# Altium footprint library Resistor_DIP.PcbLib: 68 footprints (part 1 of 5)
Each footprint in its own frame and in the unit in brackets; x right, y up, seen from the top. Pads: shape width x height; smd on the part's side, far side on the other; paste and mask are expansions set on the pad; w line width, h text height; cw(c..) or ccw(c..) is an arc to the next point about the centre after c.
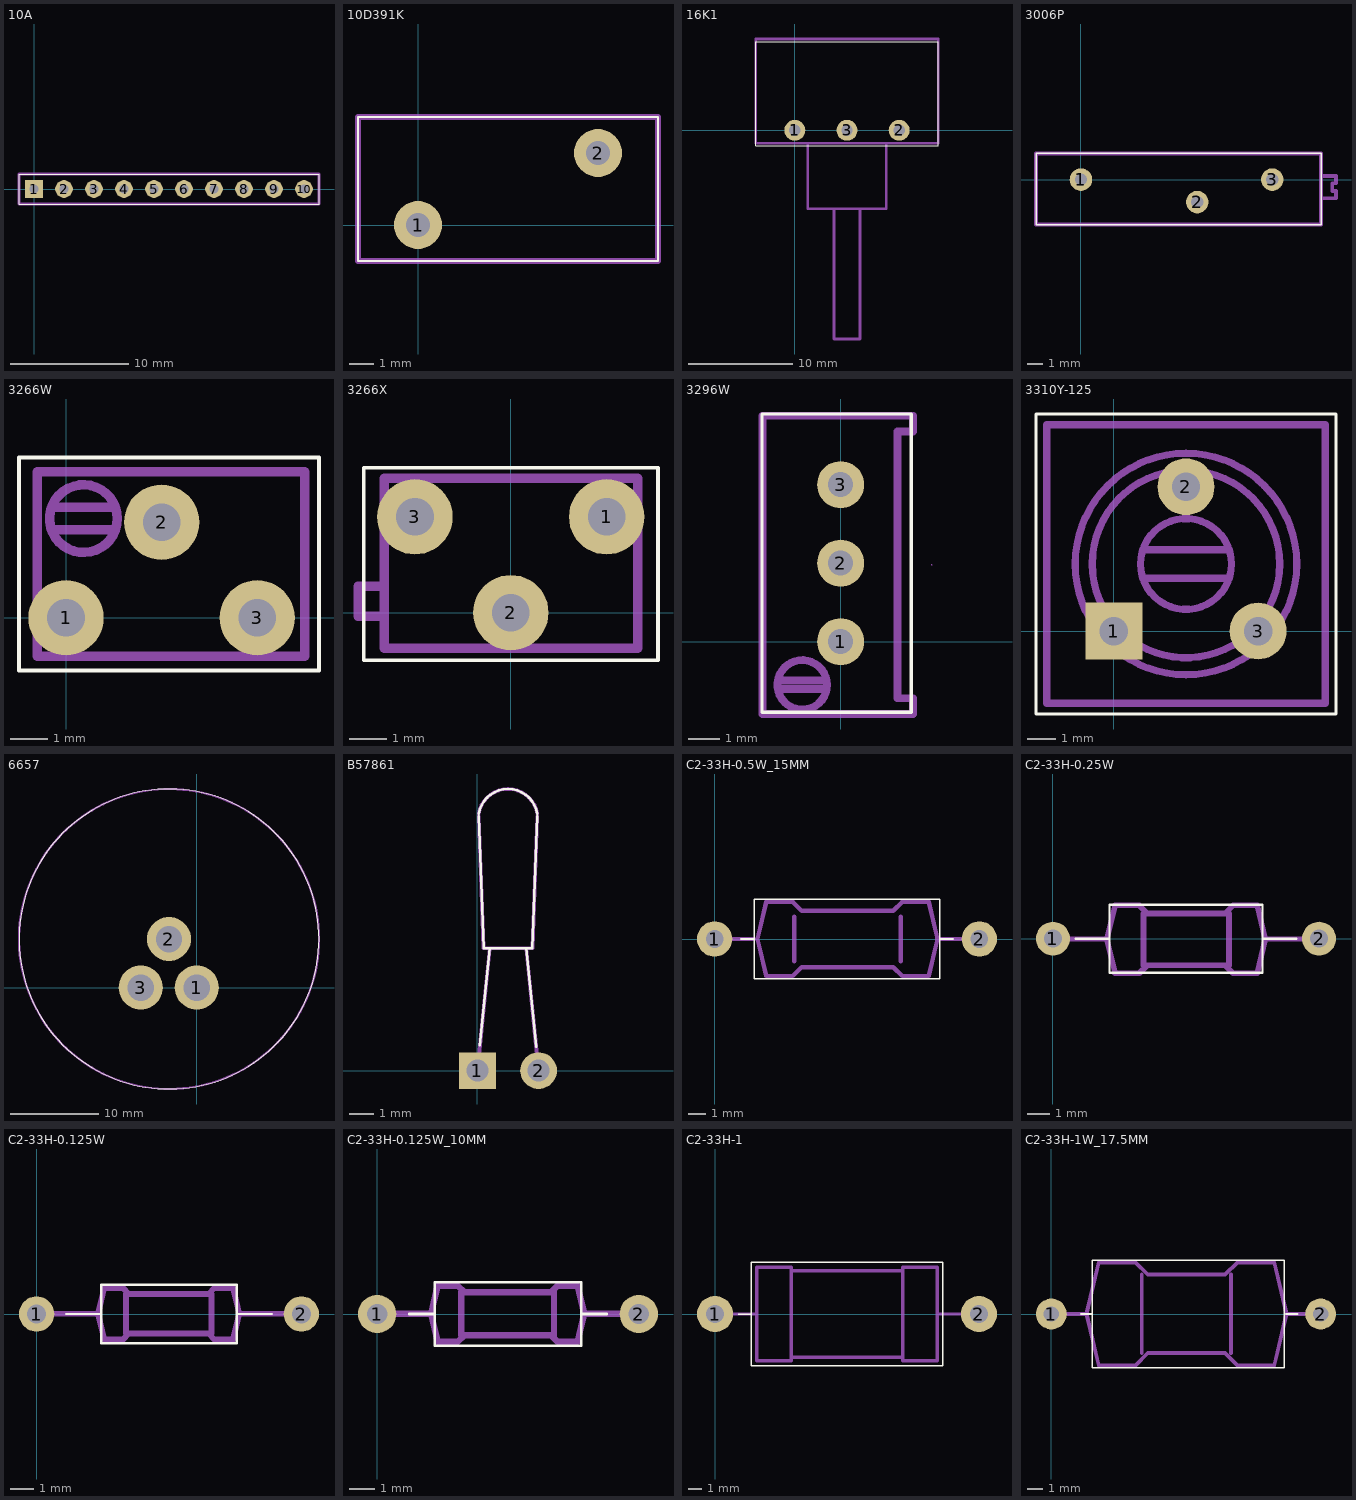
[diagram p0: the footprints below, top view; thin cyan lines are the x and y axes]

## 10A [mm]
pads (10):
  rect 1.5x1.5 hole 0.8: 1(0,0)
  round 1.5 hole 0.8: 2(2.54,0) 3(5.08,0) 4(7.62,0) 5(10.16,0) 6(12.7,0) 7(15.24,0) 8(17.78,0) 9(20.32,0) 10(22.86,0)
Top Overlay:
  lines w0.1: -1.27,-1.27 24.13,-1.27 24.13,1.27 -1.27,1.27 -1.27,-1.27
Mechanical 1:
  lines w0.25: -1.27,-1.27 24.13,-1.27 24.13,1.27 -1.27,1.27 -1.27,-1.27
  text "1" at -2.42,-0.72 h0.94

## 10D391K [mm]
pads (2):
  round 2 hole 1: 1(0,0) 2(7.5,3)
Top Overlay:
  lines w0.1: -2.5,-1.5 10,-1.5 10,4.5 -2.5,4.5 -2.5,-1.5
Mechanical 1:
  lines w0.25: -2.5,-1.5 10,-1.5 ; -2.5,-1.5 10,-1.5 ; -2.5,-1.5 -2.5,4.5 ; -2.5,-1.5 -2.5,4.5 ; -2.5,4.5 10,4.5 ; -2.5,4.5 10,4.5 ; 10,-1.5 10,4.5 ; 10,-1.5 10,4.5

## 16K1 [mm]
pads (3):
  round 2 hole 1.1: 1(0,0) 2(10,0) 3(5,0)
Top Overlay:
  lines w0.1: -3.75,-1.5 13.75,-1.5 13.75,8.5 -3.75,8.5 -3.75,-1.5
Mechanical 1:
  lines w0.25: 1.25,-1.25 1.25,-7.5 8.75,-7.5 8.75,-1.25 ; 3.75,-7.5 3.75,-20 6.25,-20 6.25,-7.5 ; -3.75,-1.25 13.75,-1.25 13.75,8.75 -3.75,8.75 -3.75,-1.25

## 3006P [mm]
pads (3):
  round 1.5 hole 0.8: 1(0,0) 2(7.75,-1.5) 3(12.75,0)
Top Overlay:
  lines w0.1: -3,-3 16,-3 16,1.75 -3,1.75 -3,-3
Mechanical 1:
  lines w0.25: 16,-1.25 17,-1.25 17,-0.75 16.75,-0.75 16.75,-0.25 17,-0.25 17,0.25 16,0.25 ; -3,-3 16,-3 16,1.75 -3,1.75 -3,-3

## 3266W [mm]
pads (3):
  round 2 hole 1: 1(0,0) 2(2.54,2.54) 3(5.08,0)
Top Overlay:
  lines w0.1: -1.25,-1.4 6.72,-1.4 6.72,4.26 -1.25,4.26 -1.25,-1.4
Mechanical 1:
  circle w0.254: c0.463,2.636 r0.9
  lines w0.254: -0.38,2.34 1.31,2.34 ; -0.38,2.94 1.31,2.94 ; -0.76,-1.02 6.34,-1.02 6.34,3.88 -0.76,3.88 -0.76,-1.02

## 3266X [mm]
pads (3):
  round 2 hole 1: 1(2.54,2.54) 2(0,0) 3(-2.54,2.54)
Top Overlay:
  lines w0.1: -3.9,-1.26 3.9,-1.26 3.9,1.94 3.9,3.84 -3.9,3.84 -3.9,-1.26
Mechanical 1:
  lines w0.25: -3.4,-0.1 -4.05,-0.1 -4.05,0.7 -3.4,0.7 ; -3.36,-0.94 3.36,-0.94 3.36,3.56 -3.36,3.56 -3.36,-0.94

## 3296W [mm]
pads (3):
  round 1.5 hole 0.8: 1(0,0) 2(0,2.5) 3(0,5)
Top Overlay:
  lines w0.1: -2.5,-2.25 -2.5,7.25 2.25,7.25 2.25,-2.25 -2.5,-2.25
Mechanical 1:
  circle w0.013: c2.901,2.444 r0.006
  circle w0.25: c-1.222,-1.379 r0.789
  lines w0.25: -1.999,-1.515 -0.445,-1.515 ; -1.999,-1.243 -0.445,-1.243 ; -2.492,-2.306 -2.492,7.194 2.308,7.194 2.308,6.694 1.808,6.694 1.808,-1.806 2.308,-1.806 2.308,-2.306 -2.492,-2.306

## 3310Y-125 [mm]
pads (3):
  rect 2x2 hole 1: 1(0,0)
  round 2 hole 1: 2(2.54,5.08) 3(5.08,0)
Top Overlay:
  lines w0.1: -2.74,-2.92 7.82,-2.92 7.82,7.64 -2.74,7.64 -2.74,-2.92
Mechanical 1:
  circle w0.254: c2.54,2.36 r3.9
  circle w0.254: c2.54,2.36 r3.3
  circle w0.254: c2.54,2.36 r1.6
  lines w0.254: 1.02,1.86 4.06,1.86 ; 1.02,2.86 4.06,2.86 ; -2.36,-2.54 7.44,-2.54 7.44,7.26 -2.36,7.26 -2.36,-2.54

## 6657 [mm]
pads (3):
  round 5 hole 3: 1(0,0) 2(-3.15,5.5) 3(-6.35,0)
Top Overlay:
  circle w0.1: c-3.149,5.502 r17
Mechanical 1:
  circle w0.25: c-3.149,5.502 r17
  circle w0.25: c-3.149,5.502 r2
  circle w0.25: c-3.149,5.502 r1
  circle w0.25: c0.026,0.002 r1
  circle w0.25: c0.026,0.002 r2
  circle w0.25: c-6.324,0.002 r2
  circle w0.25: c-6.324,0.002 r1

## B57861 [mm]
pads (2):
  rect 1.5x1.5 hole 0.9: 1(0,0)
  round 1.5 hole 0.9: 2(2.5,0)
Top Overlay:
  lines w0.1: 0.05,10.4 0.25,5 2.25,5 2.45,10.4 ; 0.05,10.501 cw(c1.25,10.3) 2.45,10.501 ; 0.1,1.03 0.5,5 ; 2,5 2.4,0.98
Mechanical 1:
  lines w0.15: 0,0.03 0.5,5 ; 0.05,10.4 0.25,5 2.25,5 2.45,10.4 ; 0.05,10.501 cw(c1.25,10.3) 2.45,10.501 ; 2,5 2.5,0.03

## C2-33H-0.5W_15MM [mm]
pads (2):
  round 2 hole 1: 1(0,0) 2(15,0)
Top Overlay:
  lines w0.1: 1.5,0 2.25,0 ; 12.75,0 13.5,0 ; 2.25,0 2.25,2.25 12.5,2.25 12.75,2.25 12.75,-2.25 2.25,-2.25 2.25,0
Mechanical 1:
  lines w0.25: 0.175,0.002 2.25,0.002 ; 4.5,-1.25 4.5,0 4.5,1.25 ; 10.55,-1.25 10.55,1.25 ; 15,0.002 12.625,0.002 ; 12.625,0.002 12.125,2.102 10.625,2.102 10.125,1.602 7.525,1.602 4.925,1.602 4.425,2.102 2.925,2.102 2.425,0.002 2.925,-2.098 4.425,-2.098 4.925,-1.598 7.525,-1.598 10.125,-1.598 10.625,-2.098 12.125,-2.098 12.625,0.002

## C2-33H-0.25W [mm]
pads (2):
  round 1.5 hole 0.8: 1(0,0) 2(11.75,0)
Top Overlay:
  lines w0.1: 1,0 2.5,0 ; 9.25,0 10.75,0 ; 2.5,0 2.5,-1.5 9.25,-1.5 9.25,1.5 2.5,1.5 2.5,0
Mechanical 1:
  lines w0.25: 0,0 2.384,-0.03 ; 3.995,-1.172 3.995,1.113 ; 7.773,-1.172 7.773,1.113 ; 11.75,0 9.384,-0.03 ; 2.384,-0.03 2.742,1.47 3.813,1.47 4.17,1.113 7.599,1.113 7.956,1.47 9.027,1.47 9.384,-0.03 ; 2.384,-0.03 2.742,-1.53 3.813,-1.53 4.17,-1.172 7.599,-1.172 7.956,-1.53 9.027,-1.53 9.384,-0.03

## C2-33H-0.125W [mm]
pads (2):
  round 1.5 hole 0.8: 1(0,0) 2(11.25,0)
Top Overlay:
  lines w0.1: 1.25,0 2.75,0 ; 8.5,0 10,0 ; 2.75,0 2.75,-1.25 8.5,-1.25 8.5,1.25 2.75,1.25 2.75,0
Mechanical 1:
  lines w0.25: -0.009,0.012 2.61,0.012 ; 3.792,-0.826 3.792,0.85 ; 7.428,-0.826 7.428,0.85 ; 11.229,0.012 8.61,0.012 ; 2.61,0.012 2.872,1.112 3.658,1.112 3.919,0.85 7.301,0.85 7.562,1.112 8.348,1.112 8.61,0.012 ; 2.61,0.012 2.872,-1.088 3.658,-1.088 3.919,-0.826 7.301,-0.826 7.562,-1.088 8.348,-1.088 8.61,0.012

## C2-33H-0.125W_10MM [mm]
pads (2):
  round 1.5 hole 0.8: 1(0,0) 2(10.25,0)
Top Overlay:
  lines w0.1: 1.25,0 2.25,0 ; 8,0 9,0 ; 2.25,0 2.25,-1.25 8,-1.25 8,1.25 2.25,1.25 2.25,0
Mechanical 1:
  lines w0.25: -0.509,0.012 2.11,0.012 ; 3.291,-0.826 3.291,0.85 ; 6.929,-0.826 6.929,0.85 ; 10.729,0.012 8.11,0.012 ; 2.11,0.012 2.372,1.112 3.158,1.112 3.42,0.85 6.8,0.85 7.062,1.112 7.848,1.112 8.11,0.012 ; 2.11,0.012 2.372,-1.088 3.158,-1.088 3.42,-0.826 6.8,-0.826 7.062,-1.088 7.848,-1.088 8.11,0.012

## C2-33H-1 [mm]
pads (2):
  round 2.6 hole 1.3: 1(0,0) 2(19,0)
Top Overlay:
  lines w0.1: 1.66,0 2.61,0 ; 2.62,-3.73 16.38,-3.73 16.38,3.73 2.62,3.73 2.62,-3.73
Mechanical 1:
  lines w0.1: 1.6,0 2.62,0 ; 16.38,0 17.4,0 ; 16.4,0 17.42,0
  lines w0.25: 0,0 3,0 ; 5.5,-3.1 13.5,-3.1 ; 5.5,3.1 13.5,3.1 ; 16,0 19,0 ; 3,-3.35 3,3.35 5.5,3.35 5.5,-3.35 3,-3.35 ; 13.5,-3.35 13.5,3.35 16,3.35 16,-3.35 13.5,-3.35

## C2-33H-1W_17.5MM [mm]
pads (2):
  round 2 hole 1: 1(0,0) 2(17.5,0)
Top Overlay:
  lines w0.1: 1.9,0 2.65,0 ; 15.25,0 16,0 ; 2.65,0 2.65,3.25 2.65,3.5 15.15,3.5 15.15,-3.5 2.65,-3.5 2.65,0
Mechanical 1:
  lines w0.25: 0,0 2.25,0 ; 5.877,-2.544 5.877,2.56 ; 11.682,-2.544 11.682,2.56 ; 15.25,0 17.5,0 ; 2.279,0.008 3.077,3.357 5.469,3.357 6.267,2.56 11.292,2.56 12.089,3.357 14.482,3.357 15.279,0.008 14.482,-3.342 12.089,-3.342 11.292,-2.544 6.267,-2.544 5.469,-3.342 3.077,-3.342 2.279,0.008